# Altium schematic symbol library SCH - POWER - LINEAR VREG - TI LP5907-4P0DQN.SchLib: 1 symbol
Pins are listed as number, name and electrical type; pins without a type are passive.

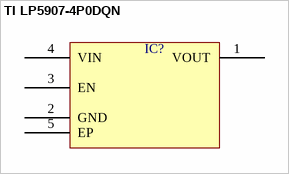
[diagram p0: symbol TI LP5907-4P0DQN]

## TI LP5907-4P0DQN
designator IC?  (value not drawn)
pins: 1 VOUT, 2 GND, 3 EN, 4 VIN, 5 EP